# Altium schematic symbol library schlib1.SchLib: 1 symbol
Pins are listed as number, name and electrical type; pins without a type are passive.

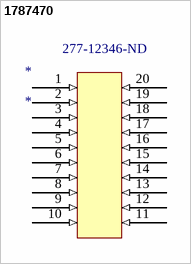
[diagram p0: symbol 1787470]

## 1787470
designator *  Supplier Part Number 1: 277-12346-ND
Barrier Strip Terminal Block; Manufacturer: Phoenix Contact; Manufacturer Part Number: 1787470; Supplier 1: Digikey; RoHS: Yes; Category: Terminal Blocks; Stock 1: 143; Pricing 1: 1=6.39 (USD); Manufacturer Series: 1787470; Terminal and Terminal Block Type: BARRIER STRIP TERMINAL BLOCK; Reach SVHC Compliant: Yes; RoHS Compliant: Yes; ComponentLink1URL: https://datasheet.ciiva.com:443/pdfs/VipMasterIC/IC/PCON/PCONS25324/PCONS24632-1.pdf?src-supplier=IHS+Markit; ComponentLink1Description: https://datasheet.ciiva.com:443/pdfs/VipMasterIC/IC/PCON/PCONS25324/PCONS24632-1.pdf?src-supplier=IHS+Markit; ComponentLink2URL: https://datasheet.ciiva.com/817/1787470-817339.pdf?src-supplier=Digikey; ComponentLink2Description: https://datasheet.ciiva.com/817/1787470-817339.pdf?src-supplier=Digikey; ComponentLink3URL: https://datasheet.ciiva.com/14109/dmcv15-10-g1f-35-lrp20thr-eng-tds-14109765.pdf?src-supplier=Distrelec; ComponentLink3Description: https://datasheet.ciiva.com/14109/dmcv15-10-g1f-35-lrp20thr-eng-tds-14109765.pdf?src-supplier=Distrelec; ComponentLink4URL: https://datasheet.ciiva.com/29211/717258-da-01-de-grundgehaeuse-1787470-50-st-29211248.pdf?src-supplier=Conrad; ComponentLink4Description: https://datasheet.ciiva.com/29211/717258-da-01-de-grundgehaeuse-1787470-50-st-29211248.pdf?src-supplier=Conrad
footprint Phoenix Contact 20 pin (Footprint not found)
pins: 1 (in), 2 (in), 3 (in), 4 (in), 5 (in), 6 (in), 7 (in), 8 (in), 9 (in), 10 (in), 11 (in), 12 (in), 13 (in), 14 (in), 15 (in), 16 (in), 17 (in), 18 (in), 19 (in), 20 (in)